# Altium schematic symbol library HDT0004.SchLib: 1 symbol
Pins are listed as number, name and electrical type; pins without a type are passive.

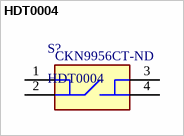
[diagram p0: symbol HDT0004]

## HDT0004
designator S?  Supplier Part Number 1: CKN9956CT-ND
Low actuation force limit switch; Supplier 1: Digi-Key
footprint HDT0004
pins: 1, 2, 3, 4